# EAGLE library part D2510-6V0C-AR-WD (library con-custom)
Headers & Wire Housings 10P 4WALL HEADER STRT SMT LO-PRO Source: Datasheet <https://multimedia.3m.com/mws/media/485877O/3m-four-wall-header-d2500-series-ts-2244.pdf>
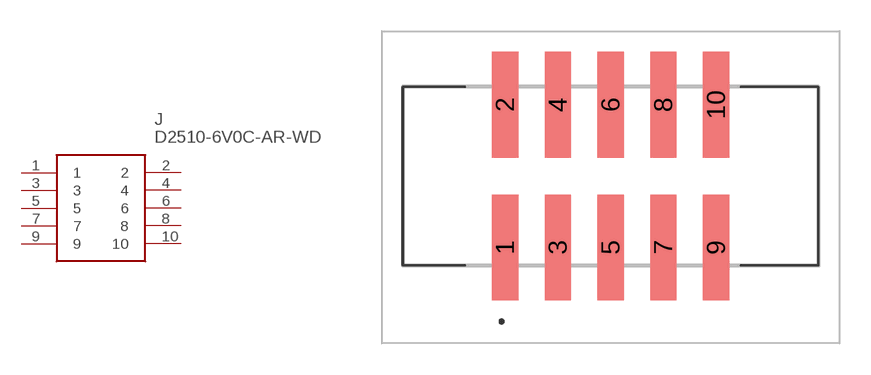
[diagram p0: symbol with the pads of D25106V0CARWD; footprint D25106V0CARWD]

Designator prefix J

## D2510-6V0C-AR-WD (ARROW_PART_NUMBER: D2510-6V0C-AR-WD; ARROW_PRICE-STOCK: https://www.arrow.com/en/products/d2510-6v0c-ar-wd/3m?region=europe; DESCRIPTION: Headers & Wire Housings 10P 4WALL HEADER STRT SMT LO-PRO; HEIGHT: 10.41mm; MANUFACTURER_NAME: 3M; MANUFACTURER_PART_NUMBER: D2510-6V0C-AR-WD; MOUSER_PART_NUMBER: 517-D2510-6V0C-AR-WD; MOUSER_PRICE-STOCK: https://www.mouser.co.uk/ProductDetail/3M-Electronic-Solutions-Division/D2510-6V0C-AR-WD?qs=IDj0%2FmHVFfZOWzKx04b5AQ%3D%3D)  [D25106V0CARWD]
1  1
2  2
3  3
4  4
5  5
6  6
7  7
8  8
9  9
10  10

## Footprint D25106V0CARWD (pad centres in mm)
D2510-6V0C-AR-WD-1
smd 1.27 x 5.08: 1 -5.08,-3.43; 2 -5.08,3.43; 3 -2.54,-3.43; 4 -2.54,3.43; 5 0,-3.43; 6 0,3.43; 7 2.54,-3.43; 8 2.54,3.43; 9 5.08,-3.43; 10 5.08,3.43